# Altium integrated library TI Interface Display.IntLib: 133 symbols (part 11 of 16)
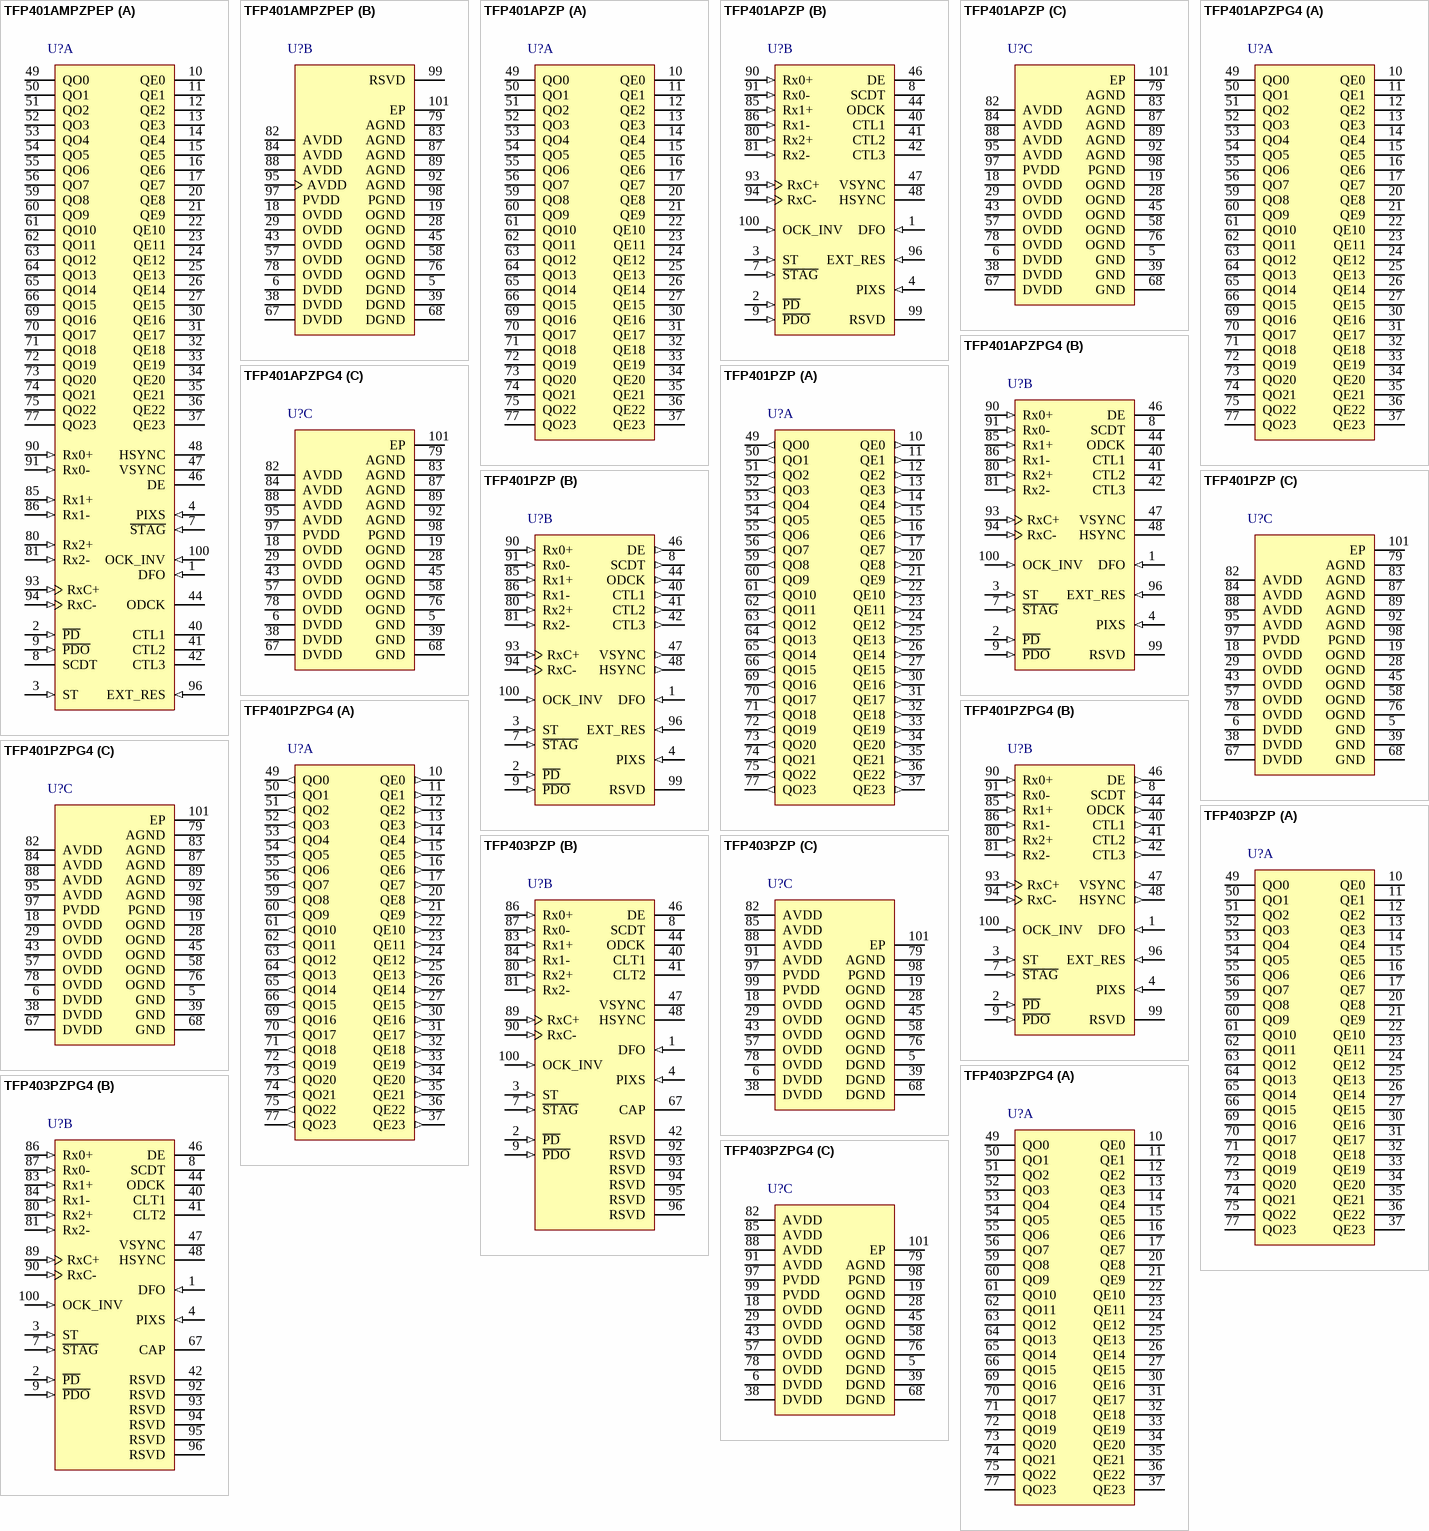
[diagram p24: symbols TFP401AMPZPEP to TFP403PZPG4]

## TFP403PZPG4
designator U?
PanelBus DVI Receiver with 3 Data Channels, 3.3 V, 0 to +70 degC, 100-pin HTQFP (PZP), Green (RoHS & no Sb/Br); Manufacturer: Texas Instruments; PartNumber: TFP403PZPG4; Number of Parallel Outputs: 48; PLL Frequency(MHz): 25 to 165; Rating: Catalog; Receiver: TRUE; Serial Data Receiver Channels: 3; SubFamily: PanelBus (DVI); Supply Voltage(s)(V): 3.3; DatasheetVersion: SLDS125B; PackageVersion: revC, Sep-2011; PackageReference: PZP100-4700X4700TP; PackageDescription: 100-Pin Plastic Quad Flat Pack PowerPAD; Eco-Plan: Green (RoHS & no Sb/Br); Mounting Technology: Surface Mount; Code_JEDEC: MS-026; ComponentLink1Description: Datasheet; ComponentLink1URL: http://www.ti.com/general/docs/lit/getliterature.tsp?genericPartNumber=TFP403&fileType=pdf; ComponentLink2Description: URL Link1; ComponentLink2URL: SamplesURL:http://www.ti.com/product/tfp403#samples
footprint PZP100-4700X4700TP_N (Thin QFP, 100-Leads, Body 14x14mm, Pitch 0.5mm, Thermal Pad 5.2x5.2mm, IPC Medium Density)
footprint PZP100-4700X4700TP_L (Thin QFP, 100-Leads, Body 14x14mm, Pitch 0.5mm, Thermal Pad 5.2x5.2mm, IPC High Density)
footprint PZP100-4700X4700TP_M (Thin QFP, 100-Leads, Body 14x14mm, Pitch 0.5mm, Thermal Pad 5.2x5.2mm, IPC Low Density)
part A pins: 10 QE0 (hiz) "Even blue pixel output--Output for even and odd blue pixels when in 1-pixel/clock mode. Output for even only blue pixel when in 2-pixel per clock mode. Output data is synchronized to the output data clock, ODCK.[see (See Datasheet)", 11 QE1 (hiz) "Even blue pixel output--Output for even and odd blue pixels when in 1-pixel/clock mode. Output for even only blue pixel when in 2-pixel per clock mode. Output data is synchronized to the output data clock, ODCK.[see (See Datasheet)", 12 QE2 (hiz) "Even blue pixel output--Output for even and odd blue pixels when in 1-pixel/clock mode. Output for even only blue pixel when in 2-pixel per clock mode. Output data is synchronized to the output data clock, ODCK.[see (See Datasheet)", 13 QE3 (hiz) "Even blue pixel output--Output for even and odd blue pixels when in 1-pixel/clock mode. Output for even only blue pixel when in 2-pixel per clock mode. Output data is synchronized to the output data clock, ODCK.[see (See Datasheet)", 14 QE4 (hiz) "Even blue pixel output--Output for even and odd blue pixels when in 1-pixel/clock mode. Output for even only blue pixel when in 2-pixel per clock mode. Output data is synchronized to the output data clock, ODCK.[see (See Datasheet)", 15 QE5 (hiz) "Even blue pixel output--Output for even and odd blue pixels when in 1-pixel/clock mode. Output for even only blue pixel when in 2-pixel per clock mode. Output data is synchronized to the output data clock, ODCK.[see (See Datasheet)", 16 QE6 (hiz) "Even blue pixel output--Output for even and odd blue pixels when in 1-pixel/clock mode. Output for even only blue pixel when in 2-pixel per clock mode. Output data is synchronized to the output data clock, ODCK.[see (See Datasheet)", 17 QE7 (hiz) "Even blue pixel output--Output for even and odd blue pixels when in 1-pixel/clock mode. Output for even only blue pixel when in 2-pixel per clock mode. Output data is synchronized to the output data clock, ODCK.[see (See Datasheet)", 20 QE8 (hiz) "Even green pixel output--Output for even and odd green pixels when in 1-pixel/clock mode. Output for even only green pixel when in 2-pixel/clock mode. Output data is synchronized to the output data clock, ODCK.[see datasheet]", 21 QE9 (hiz) "Even green pixel output--Output for even and odd green pixels when in 1-pixel/clock mode. Output for even only green pixel when in 2-pixel/clock mode. Output data is synchronized to the output data clock, ODCK.[see datasheet]", 22 QE10 (hiz) "Even green pixel output--Output for even and odd green pixels when in 1-pixel/clock mode. Output for even only green pixel when in 2-pixel/clock mode. Output data is synchronized to the output data clock, ODCK.[see datasheet]", 23 QE11 (hiz) "Even green pixel output--Output for even and odd green pixels when in 1-pixel/clock mode. Output for even only green pixel when in 2-pixel/clock mode. Output data is synchronized to the output data clock, ODCK.[see datasheet]", 24 QE12 (hiz) "Even green pixel output--Output for even and odd green pixels when in 1-pixel/clock mode. Output for even only green pixel when in 2-pixel/clock mode. Output data is synchronized to the output data clock, ODCK.[see datasheet]", 25 QE13 (hiz) "Even green pixel output--Output for even and odd green pixels when in 1-pixel/clock mode. Output for even only green pixel when in 2-pixel/clock mode. Output data is synchronized to the output data clock, ODCK.[see datasheet]", 26 QE14 (hiz) "Even green pixel output--Output for even and odd green pixels when in 1-pixel/clock mode. Output for even only green pixel when in 2-pixel/clock mode. Output data is synchronized to the output data clock, ODCK.[see datasheet]", 27 QE15 (hiz) "Even green pixel output--Output for even and odd green pixels when in 1-pixel/clock mode. Output for even only green pixel when in 2-pixel/clock mode. Output data is synchronized to the output data clock, ODCK.[see datasheet]", 30 QE16 (hiz) "Even red pixel output--Output for even and odd red pixels when in 1-pixel/clock mode. Output for even only red pixel when in 2-pixel/clock mode. Output data is synchronized to the output data clock, ODCK.[see datasheet]", 31 QE17 (hiz) "Even red pixel output--Output for even and odd red pixels when in 1-pixel/clock mode. Output for even only red pixel when in 2-pixel/clock mode. Output data is synchronized to the output data clock, ODCK.[see datasheet]", 32 QE18 (hiz) "Even red pixel output--Output for even and odd red pixels when in 1-pixel/clock mode. Output for even only red pixel when in 2-pixel/clock mode. Output data is synchronized to the output data clock, ODCK.[see datasheet]", 33 QE19 (hiz) "Even red pixel output--Output for even and odd red pixels when in 1-pixel/clock mode. Output for even only red pixel when in 2-pixel/clock mode. Output data is synchronized to the output data clock, ODCK.[see datasheet]", 34 QE20 (hiz) "Even red pixel output--Output for even and odd red pixels when in 1-pixel/clock mode. Output for even only red pixel when in 2-pixel/clock mode. Output data is synchronized to the output data clock, ODCK.[see datasheet]", 35 QE21 (hiz) "Even red pixel output--Output for even and odd red pixels when in 1-pixel/clock mode. Output for even only red pixel when in 2-pixel/clock mode. Output data is synchronized to the output data clock, ODCK.[see datasheet]", 36 QE22 (hiz) "Even red pixel output--Output for even and odd red pixels when in 1-pixel/clock mode. Output for even only red pixel when in 2-pixel/clock mode. Output data is synchronized to the output data clock, ODCK.[see datasheet]", 37 QE23 (hiz) "Even red pixel output--Output for even and odd red pixels when in 1-pixel/clock mode. Output for even only red pixel when in 2-pixel/clock mode. Output data is synchronized to the output data clock, ODCK.[see datasheet]", 49 QO0 (hiz) "Odd blue pixel output--Output for odd only blue pixel when in 2-pixel/clock mode. Not used, and held low, when in 1-pixel/clock mode. Output data is synchronized to the output data clock, ODCK.[see datasheet]", 50 QO1 (hiz) "Odd blue pixel output--Output for odd only blue pixel when in 2-pixel/clock mode. Not used, and held low, when in 1-pixel/clock mode. Output data is synchronized to the output data clock, ODCK.[see datasheet]", 51 QO2 (hiz) "Odd blue pixel output--Output for odd only blue pixel when in 2-pixel/clock mode. Not used, and held low, when in 1-pixel/clock mode. Output data is synchronized to the output data clock, ODCK.[see datasheet]", 52 QO3 (hiz) "Odd blue pixel output--Output for odd only blue pixel when in 2-pixel/clock mode. Not used, and held low, when in 1-pixel/clock mode. Output data is synchronized to the output data clock, ODCK.[see datasheet]", 53 QO4 (hiz) "Odd blue pixel output--Output for odd only blue pixel when in 2-pixel/clock mode. Not used, and held low, when in 1-pixel/clock mode. Output data is synchronized to the output data clock, ODCK.[see datasheet]", 54 QO5 (hiz) "Odd blue pixel output--Output for odd only blue pixel when in 2-pixel/clock mode. Not used, and held low, when in 1-pixel/clock mode. Output data is synchronized to the output data clock, ODCK.[see datasheet]", 55 QO6 (hiz) "Odd blue pixel output--Output for odd only blue pixel when in 2-pixel/clock mode. Not used, and held low, when in 1-pixel/clock mode. Output data is synchronized to the output data clock, ODCK.[see datasheet]", 56 QO7 (hiz) "Odd blue pixel output--Output for odd only blue pixel when in 2-pixel/clock mode. Not used, and held low, when in 1-pixel/clock mode. Output data is synchronized to the output data clock, ODCK.[see datasheet]", 59 QO8 (hiz) "Odd green pixel output--Output for odd only green pixel when in 2-pixel/clock mode. Not used, and held low,when in 1-pixel/clock mode. Output data is synchronized to the output data clock, ODCK.[see datasheet]", 60 QO9 (hiz) "Odd green pixel output--Output for odd only green pixel when in 2-pixel/clock mode. Not used, and held low,when in 1-pixel/clock mode. Output data is synchronized to the output data clock, ODCK.[see datasheet]", 61 QO10 (hiz) "Odd green pixel output--Output for odd only green pixel when in 2-pixel/clock mode. Not used, and held low,when in 1-pixel/clock mode. Output data is synchronized to the output data clock, ODCK.[see datasheet]", 62 QO11 (hiz) "Odd green pixel output--Output for odd only green pixel when in 2-pixel/clock mode. Not used, and held low,when in 1-pixel/clock mode. Output data is synchronized to the output data clock, ODCK.[see datasheet]", 63 QO12 (hiz) "Odd green pixel output--Output for odd only green pixel when in 2-pixel/clock mode. Not used, and held low,when in 1-pixel/clock mode. Output data is synchronized to the output data clock, ODCK.[see datasheet]", 64 QO13 (hiz) "Odd green pixel output--Output for odd only green pixel when in 2-pixel/clock mode. Not used, and held low,when in 1-pixel/clock mode. Output data is synchronized to the output data clock, ODCK.[see datasheet]", 65 QO14 (hiz) "Odd green pixel output--Output for odd only green pixel when in 2-pixel/clock mode. Not used, and held low,when in 1-pixel/clock mode. Output data is synchronized to the output data clock, ODCK.[see datasheet]", 66 QO15 (hiz) "Odd green pixel output--Output for odd only green pixel when in 2-pixel/clock mode. Not used, and held low,when in 1-pixel/clock mode. Output data is synchronized to the output data clock, ODCK.[see datasheet]", 69 QO16 (hiz) "Odd red pixel output--Output for odd only red pixel when in 2-pixel/clock mode. Not used, and held low, when in 1-pixel/clock mode. Output data is synchronized to the output data clock, ODCK.[see datasheet]", 70 QO17 (hiz) "Odd red pixel output--Output for odd only red pixel when in 2-pixel/clock mode. Not used, and held low, when in 1-pixel/clock mode. Output data is synchronized to the output data clock, ODCK.[see datasheet]", 71 QO18 (hiz) "Odd red pixel output--Output for odd only red pixel when in 2-pixel/clock mode. Not used, and held low, when in 1-pixel/clock mode. Output data is synchronized to the output data clock, ODCK.[see datasheet]", 72 QO19 (hiz) "Odd red pixel output--Output for odd only red pixel when in 2-pixel/clock mode. Not used, and held low, when in 1-pixel/clock mode. Output data is synchronized to the output data clock, ODCK.[see datasheet]", 73 QO20 (hiz) "Odd red pixel output--Output for odd only red pixel when in 2-pixel/clock mode. Not used, and held low, when in 1-pixel/clock mode. Output data is synchronized to the output data clock, ODCK.[see datasheet]", 74 QO21 (hiz) "Odd red pixel output--Output for odd only red pixel when in 2-pixel/clock mode. Not used, and held low, when in 1-pixel/clock mode. Output data is synchronized to the output data clock, ODCK.[see datasheet]", 75 QO22 (hiz) "Odd red pixel output--Output for odd only red pixel when in 2-pixel/clock mode. Not used, and held low, when in 1-pixel/clock mode. Output data is synchronized to the output data clock, ODCK.[see datasheet]", 77 QO23 (hiz) "Odd red pixel output--Output for odd only red pixel when in 2-pixel/clock mode. Not used, and held low, when in 1-pixel/clock mode. Output data is synchronized to the output data clock, ODCK.[see datasheet]"
part B pins: 1 DFO (in) "Output clock data format--Controls the output clock (ODCK) format for either TFT or DSTN panel support.", 2 ~{PD} (in) "Power down--An active low signal that controls the TFP403 power-down state.[see datasheet]", 3 ST (in) "Output drive strength select--Selects output drive strength for high or low current drive. (See dc specifications for IOH and IOL vs ST state.)[see datasheet]", 4 PIXS (in) "Pixel select--Selects between one or two pixels per clock output modes.[see datasheet]", 7 ~{STAG} (in) "Staggered pixel select--An active low signal used in the 2-pixel/clock pixel mode (PIXS = high). Time staggers the even and odd pixel outputs to reduce ground bounce.[see datasheet]", 8 SCDT (hiz) "Sync detect--Output to signal when the link is active or inactive. The link is considered to be active when DE is actively switching.[see datasheet]", 9 ~{PDO} (in) "Output drive power down--An active low signal that controls the power-down state of the output drivers.[see datasheet]", 40 CLT1 (hiz) "General-purpose control signals--Used for user defined control. In normal mode CTL1 is not powered down via P\D\O\.", 41 CLT2 (hiz) "General-purpose control signals--Used for user defined control. In normal mode CTL1 is not powered down via P\D\O\.", 42 RSVD "Reserved. Must be tied high for normal operation", 44 ODCK (hiz) "Output data clock--Pixel clock. All pixel outputs QE[23:0] and QO[23:0] (if in 2-pixel/clock mode) along with DE, HSYNC, VSYNC, and CTL[2:1] are synchronized to this clock.", 46 DE (hiz) "Output data enable--Used to indicate time of active video display versus nonactive display or blank time.[see datasheet]", 47 VSYNC (hiz) "Vertical sync output", 48 HSYNC (hiz) "Horizontal sync output", 67 CAP "Bypass capacitor--4.7 uF tantalum and 0.01 uF ceramic connected to ground. This capacitor is optional for the TFP403, but is required for the TFP501.", 80 Rx2+ (in) "Channel-2 positive receiver input--Positive side of channel-2 TMDS low voltage signal differential input pair.Channel-2 receives red pixel data in active display and CTL2 control signals in blank.", 81 Rx2- (in) "Channel-2 negative receiver input", 83 Rx1+ (in) "Channel-1 positive receiver input--Positive side of channel-1 TMDS low voltage signal differential input pair.Channel-1 receives green pixel data in active display and CTL1 control signals in blank.", 84 Rx1- (in) "Channel-1 negative receiver input--Negative side of channel-1 TMDS low voltage signal differential input pair", 86 Rx0+ (in) "Channel-0 positive receiver input--Positive side of channel-0. TMDS low voltage signal differential input pair.Channel-0 receives blue pixel data in active display and HSYNC, VSYNC control signals in blank.", 87 Rx0- (in) "Channel-0 negative receiver input--Negative side of channel-0. TMDS low voltage signal differential input pair.", 89 RxC+ (in) "Clock positive receiver input--Positive side of reference clock. TMDS low voltage signal differential input pair", 90 RxC- (in) "Clock negative receiver input--Negative side of reference clock. TMDS low voltage signal differential input pair", 92 RSVD "Reserved. See TFP501 data sheet for intended future use.", 93 RSVD "Reserved. See TFP501 data sheet for intended future use.", 94 RSVD "Reserved. See TFP501 data sheet for intended future use.", 95 RSVD "Reserved. See TFP501 data sheet for intended future use.", 96 RSVD "Reserved. See TFP501 data sheet for intended future use.", 100 OCK_INV (in) "ODCK polarity"
part C pins: 5 DGND (power) "Digital ground--Ground reference and current return for digital core", 6 DVDD (power) "Digital VDD--Power supply for digital core. Nominally 3.3 V", 18 OVDD (power) "Output driver VDD--Power supply for output drivers. Nominally 3.3 V", 19 OGND (power) "Output driver ground--Ground reference and current return for digital output drivers", 28 OGND (power) "Output driver ground--Ground reference and current return for digital output drivers", 29 OVDD (power) "Output driver VDD--Power supply for output drivers. Nominally 3.3 V", 38 DVDD (power) "Digital VDD--Power supply for digital core. Nominally 3.3 V", 39 DGND (power) "Digital ground--Ground reference and current return for digital core", 43 OVDD (power) "Output driver VDD--Power supply for output drivers. Nominally 3.3 V", 45 OGND (power) "Output driver ground--Ground reference and current return for digital output drivers", 57 OVDD (power) "Output driver VDD--Power supply for output drivers. Nominally 3.3 V", 58 OGND (power) "Output driver ground--Ground reference and current return for digital output drivers", 68 DGND (power) "Digital ground--Ground reference and current return for digital core", 76 OGND (power) "Output driver ground--Ground reference and current return for digital output drivers", 78 OVDD (power) "Output driver VDD--Power supply for output drivers. Nominally 3.3 V", 79 AGND (power) "Analog ground--Ground reference and current return for analog circuitry", 82 AVDD (power) "Analog VDD--Power supply for analog circuitry. Nominally 3.3 V", 85 AVDD (power) "Analog VDD--Power supply for analog circuitry. Nominally 3.3 V", 88 AVDD (power) "Analog VDD--Power supply for analog circuitry. Nominally 3.3 V", 91 AVDD (power) "Analog VDD--Power supply for analog circuitry. Nominally 3.3 V", 97 PVDD (power) "PLL VDD--Power supply for internal PLL. Nominally 3.3 V", 98 PGND (power) "PLL GND--Ground reference and current return for internal PLL", 99 PVDD (power) "PLL VDD--Power supply for internal PLL. Nominally 3.3 V", 101 EP "(HSYNC, VSYNC, DE, CTL1-2 ) are latched"

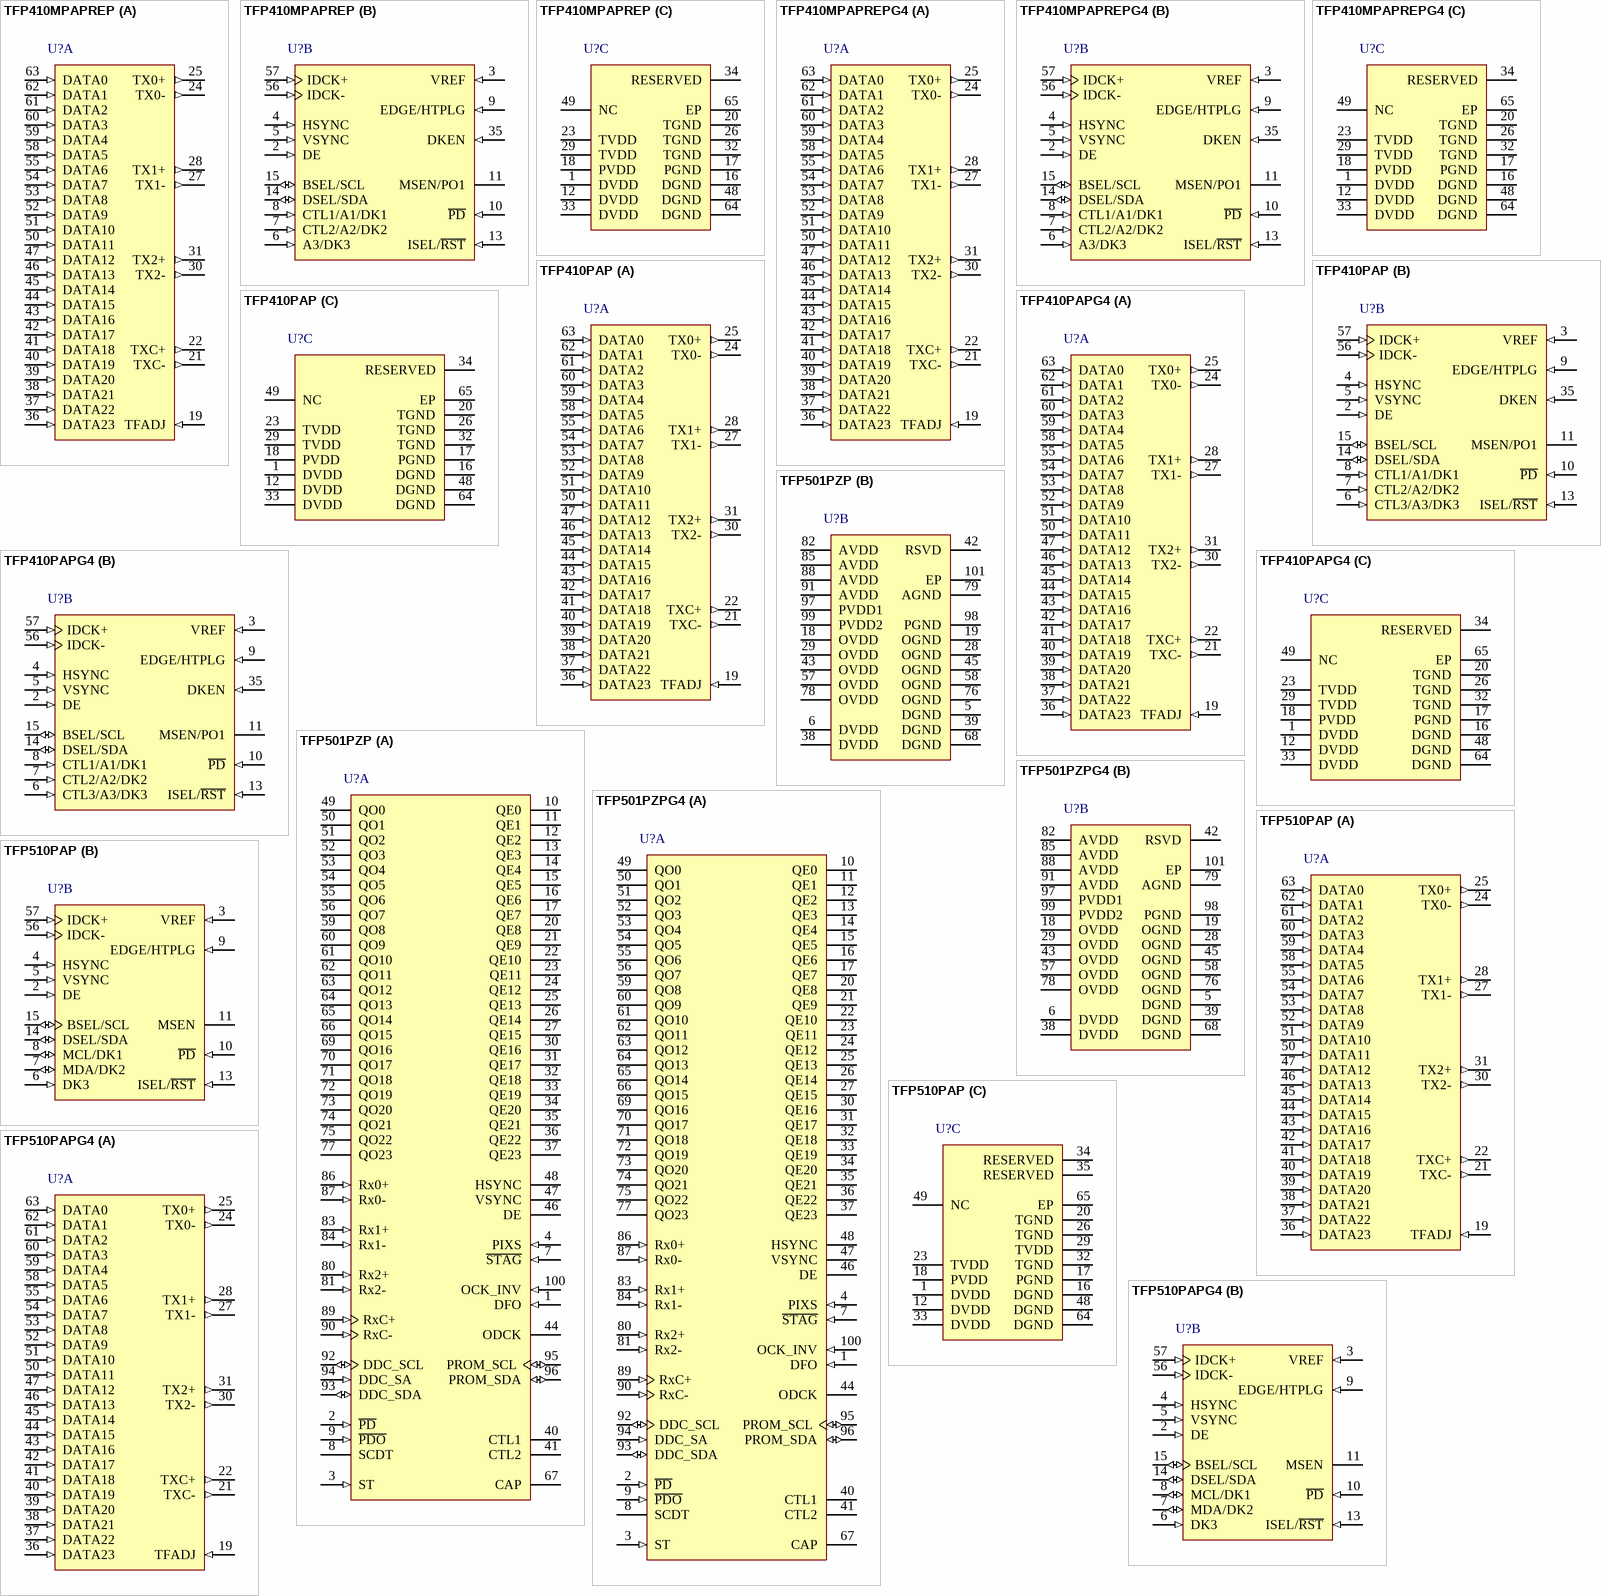
[diagram p10: symbols TFP410MPAPREP to TFP510PAPG4]

## TFP410MPAPREP
designator U?
Enhanced Product Panelbus™ Digital Transmitter with 3 Data Channels, 3.3 V, -55 to +125 degC, 64-pin HTQFP (PAP), Green (RoHS & no Sb/Br); Manufacturer: Texas Instruments; PartNumber: TFP410MPAPREP; Number of Parallel Inputs: 24; PLL Frequency(MHz): 25 to 165; Rating: HiRel Enhanced Product; Serial Data Transmitter Channels: 3; SubFamily: PanelBus (DVI); Supply Voltage(s)(V): 3.3; Transmitter: TRUE; DatasheetVersion: SGLS344A; PackageVersion: revC, Aug-2003; PackageReference: PAP64-4650X4650TP; PackageDescription: 64-Pin Plastic Quad Flat Pack, 10 x 10 mm Body, 0.5 mm Pitch, Exposed Pad; Supplier 1: Newark; Supplier Part Number 1: 46M0918; Supplier 2: Mouser; Supplier Part Number 2: 595-TFP410MPAPREP; Eco-Plan: Green (RoHS & no Sb/Br); Mounting Technology: Surface Mount; Code_JEDEC: MS-026; ComponentLink1Description: Datasheet; ComponentLink1URL: http://www.ti.com/general/docs/lit/getliterature.tsp?genericPartNumber=TFP410-EP&fileType=pdf; ComponentLink2Description: URL Link1; ComponentLink2URL: SamplesURL:http://www.ti.com/product/tfp410-ep#samples
footprint PAP64-4650X4650TP_N (Thin QFP, 64-Leads, Body 10x10mm, Pitch 0.5mm, Thermal Pad 5x5mm, IPC Medium Density)
footprint PAP64-4650X4650TP_L (Thin QFP, 64-Leads, Body 10x10mm, Pitch 0.5mm, Thermal Pad 5x5mm, IPC High Density)
footprint PAP64-4650X4650TP_M (Thin QFP, 64-Leads, Body 10x10mm, Pitch 0.5mm, Thermal Pad 5x5mm, IPC Low Density)
part A pins: 19 TFADJ (in) "Full-scale adjust. This pin controls the amplitude of the DVI output voltage swing, determined by the value of the pullup resistor RTFADJ connected to TVDD.", 21 TXC- (out) "DVI differential output clock", 22 TXC+ (out) "DVI differential output clock", 24 TX0- (out) "Channel 0 DVI differential output pair. TX0+/- transmits the 8-bit blue pixel data during active video and HSYNC and VSYNC during the blanking interval.", 25 TX0+ (out) "Channel 0 DVI differential output pair. TX0+/- transmits the 8-bit blue pixel data during active video and HSYNC and VSYNC during the blanking interval.", 27 TX1- (out) "Channel 1 DVI differential output pair. TX1+/- transmits the 8-bit green pixel data during active video and CTL[1] during the blanking interval.", 28 TX1+ (out) "Channel 1 DVI differential output pair. TX1+/- transmits the 8-bit green pixel data during active video and CTL[1] during the blanking interval.", 30 TX2- (out) "Channel 2 DVI differential output pair. TX2+/- transmits the 8-bit red pixel data during active video and CTL[3:2] during the blanking interval.", 31 TX2+ (out) "Channel 2 DVI differential output pair. TX2+/- transmits the 8-bit red pixel data during active video and CTL[3:2] during the blanking interval.", 36 DATA23 (in) "Upper 12 bits of the 24-bit pixel bus In 24-bit, single-edge input mode (BSEL = high), this bus inputs the top half of the 24-bit pixel bus.[see datasheet]", 37 DATA22 (in) "Upper 12 bits of the 24-bit pixel bus In 24-bit, single-edge input mode (BSEL = high), this bus inputs the top half of the 24-bit pixel bus.[see datasheet]", 38 DATA21 (in) "Upper 12 bits of the 24-bit pixel bus In 24-bit, single-edge input mode (BSEL = high), this bus inputs the top half of the 24-bit pixel bus.[see datasheet]", 39 DATA20 (in) "Upper 12 bits of the 24-bit pixel bus In 24-bit, single-edge input mode (BSEL = high), this bus inputs the top half of the 24-bit pixel bus.[see datasheet]", 40 DATA19 (in) "Upper 12 bits of the 24-bit pixel bus In 24-bit, single-edge input mode (BSEL = high), this bus inputs the top half of the 24-bit pixel bus.[see datasheet]", 41 DATA18 (in) "Upper 12 bits of the 24-bit pixel bus In 24-bit, single-edge input mode (BSEL = high), this bus inputs the top half of the 24-bit pixel bus.[see datasheet]", 42 DATA17 (in) "Upper 12 bits of the 24-bit pixel bus In 24-bit, single-edge input mode (BSEL = high), this bus inputs the top half of the 24-bit pixel bus.[see datasheet]", 43 DATA16 (in) "Upper 12 bits of the 24-bit pixel bus In 24-bit, single-edge input mode (BSEL = high), this bus inputs the top half of the 24-bit pixel bus.[see datasheet]", 44 DATA15 (in) "Upper 12 bits of the 24-bit pixel bus In 24-bit, single-edge input mode (BSEL = high), this bus inputs the top half of the 24-bit pixel bus.[see datasheet]", 45 DATA14 (in) "Upper 12 bits of the 24-bit pixel bus In 24-bit, single-edge input mode (BSEL = high), this bus inputs the top half of the 24-bit pixel bus.[see datasheet]", 46 DATA13 (in) "Upper 12 bits of the 24-bit pixel bus In 24-bit, single-edge input mode (BSEL = high), this bus inputs the top half of the 24-bit pixel bus.[see datasheet]", 47 DATA12 (in) "Upper 12 bits of the 24-bit pixel bus In 24-bit, single-edge input mode (BSEL = high), this bus inputs the top half of the 24-bit pixel bus.[see datasheet]", 50 DATA11 (in) "Lower 12 bits of the 24-bit pixel bus/12-bit pixel bus input In 24-bit, single-edge input mode (BSEL = high), this bus inputs the bottom half of the 24-bit pixel bus.[see datasheet]", 51 DATA10 (in) "Lower 12 bits of the 24-bit pixel bus/12-bit pixel bus input In 24-bit, single-edge input mode (BSEL = high), this bus inputs the bottom half of the 24-bit pixel bus.[see datasheet]", 52 DATA9 (in) "Lower 12 bits of the 24-bit pixel bus/12-bit pixel bus input In 24-bit, single-edge input mode (BSEL = high), this bus inputs the bottom half of the 24-bit pixel bus.[see datasheet]", 53 DATA8 (in) "Lower 12 bits of the 24-bit pixel bus/12-bit pixel bus input In 24-bit, single-edge input mode (BSEL = high), this bus inputs the bottom half of the 24-bit pixel bus.[see datasheet]", 54 DATA7 (in) "Lower 12 bits of the 24-bit pixel bus/12-bit pixel bus input In 24-bit, single-edge input mode (BSEL = high), this bus inputs the bottom half of the 24-bit pixel bus.[see datasheet]", 55 DATA6 (in) "Lower 12 bits of the 24-bit pixel bus/12-bit pixel bus input In 24-bit, single-edge input mode (BSEL = high), this bus inputs the bottom half of the 24-bit pixel bus.[see datasheet]", 58 DATA5 (in) "Lower 12 bits of the 24-bit pixel bus/12-bit pixel bus input In 24-bit, single-edge input mode (BSEL = high), this bus inputs the bottom half of the 24-bit pixel bus.[see datasheet]", 59 DATA4 (in) "Lower 12 bits of the 24-bit pixel bus/12-bit pixel bus input In 24-bit, single-edge input mode (BSEL = high), this bus inputs the bottom half of the 24-bit pixel bus.[see datasheet]", 60 DATA3 (in) "Lower 12 bits of the 24-bit pixel bus/12-bit pixel bus input In 24-bit, single-edge input mode (BSEL = high), this bus inputs the bottom half of the 24-bit pixel bus.[see datasheet]", 61 DATA2 (in) "Lower 12 bits of the 24-bit pixel bus/12-bit pixel bus input In 24-bit, single-edge input mode (BSEL = high), this bus inputs the bottom half of the 24-bit pixel bus.[see datasheet]", 62 DATA1 (in) "Lower 12 bits of the 24-bit pixel bus/12-bit pixel bus input In 24-bit, single-edge input mode (BSEL = high), this bus inputs the bottom half of the 24-bit pixel bus.[see datasheet]", 63 DATA0 (in) "Lower 12 bits of the 24-bit pixel bus/12-bit pixel bus input In 24-bit, single-edge input mode (BSEL = high), this bus inputs the bottom half of the 24-bit pixel bus.[see datasheet]"
part B pins: 2 DE (in) "Data enable. As defined in DVI 1.0 specification, the DE signal allows the transmitter to encode pixel data or control data on any given input clock cycle.[see datasheet]", 3 VREF (in) "Input reference voltage. Selects the swing range of the digital data inputs (DATA[23:0], DE, HSYNC,VSYNC, and IDCK+/-).[see datasheet]", 4 HSYNC (in) "Horizontal sync input", 5 VSYNC (in) "Vertical sync input", 6 A3/DK3 (in) "The operation of these three multifunction inputs depends on the settings of the ISEL (pin 13) and DKEN (pin 35) inputs. All three inputs support 3.3-V CMOS signal levels and contain weak pulldown resistors so that, if left (See Datasheet)", 7 CTL2/A2/DK2 (in) "The operation of these three multifunction inputs depends on the settings of the ISEL (pin 13) and DKEN (pin 35) inputs. All three inputs support 3.3-V CMOS signal levels and contain weak pulldown resistors so that, if left (See Datasheet)", 8 CTL1/A1/DK1 (in) "The operation of these three multifunction inputs depends on the settings of the ISEL (pin 13) and DKEN (pin 35) inputs. All three inputs support 3.3-V CMOS signal levels and contain weak pulldown resistors so that, if left (See Datasheet)", 9 EDGE/HTPLG (in) "Edge select/hot plug input. The operation of this pin depends on whether the I2C interface is enabled or disabled. This input is 3.3-V tolerant only.[see datasheet]", 10 ~{PD} (in) "Power down (active low). In the power-down state, only the digital I/O buffers and I2C interface remain active.[see datasheet]", 11 MSEN/PO1 (oc) "Monitor sense/programmable output 1. The operation of this pin depends on whether the I2C interface is enabled or disabled.[see datasheet]", 13 ISEL/~{RST} (in) "I2C interface select/I2C reset (active low, asynchronous) If ISEL is high, the I2C interface is active. Default values for the I2C registers can be found in the I2C register descriptions    section[seedatasheet]", 14 DSEL/SDA (io) "DSEL/I2C data. The operation of this pin depends on whether the I2C interface is enabled or disabled. This pin is only 3.3-V tolerant.[see datasheet]", 15 BSEL/SCL (io) "Input bus select/I2C clock input. The operation of this pin depends on whether the I2C interface is enabled or disabled. This pin is only 3.3-V tolerant.[see datasheet]", 35 DKEN (in) "Data deskew enable. The deskew function can be enabled either through I2C or by this pin when I2C is disabled.When deskew is enabled, the input clock to data setup/hold time can be adjusted in discrete trim increments.[see (See Datasheet)", 56 IDCK- (in) "Differential clock input. The TFP410 supports both single-ended and fully differential clock input modes.[see datasheet]", 57 IDCK+ (in) "Differential clock input. The TFP410 supports both single-ended and fully differential clock input modes.[see datasheet]"
part C pins: 1 DVDD (power) "Digital power supply. Must be set to 3.3-V nominal.", 12 DVDD (power) "Digital power supply. Must be set to 3.3-V nominal.", 16 DGND (power) "Digital ground", 17 PGND (power) "PLL ground", 18 PVDD (power) "PLL power supply. Must be set to 3.3-V nominal.", 20 TGND (power) "Transmitter differential output driver ground", 23 TVDD (power) "Transmitter differential output driver power supply. Must be set to 3.3-V nominal.", 26 TGND (power) "Transmitter differential output driver ground", 29 TVDD (power) "Transmitter differential output driver power supply. Must be set to 3.3-V nominal.", 32 TGND (power) "Transmitter differential output driver ground", 33 DVDD (power) "Digital power supply. Must be set to 3.3-V nominal.", 34 RESERVED "This pin is reserved and must be tied to GND for normal operation.", 48 DGND (power) "Digital ground", 49 NC "No connection required. If connected, tie high.", 64 DGND (power) "Digital ground", 65 EP "Exposed Pad"

## TFP410MPAPREPG4
designator U?
Enhanced Product Panelbus™ Digital Transmitter with 3 Data Channels, 3.3 V, -55 to +125 degC, 64-pin HTQFP (PAP), Green (RoHS & no Sb/Br); Manufacturer: Texas Instruments; PartNumber: TFP410MPAPREPG4; Number of Parallel Inputs: 24; PLL Frequency(MHz): 25 to 165; Rating: HiRel Enhanced Product; Serial Data Transmitter Channels: 3; SubFamily: PanelBus (DVI); Supply Voltage(s)(V): 3.3; Transmitter: TRUE; DatasheetVersion: SGLS344A; PackageVersion: revC, Aug-2003; PackageReference: PAP64-4650X4650TP; PackageDescription: 64-Pin Plastic Quad Flat Pack, 10 x 10 mm Body, 0.5 mm Pitch, Exposed Pad; Supplier 1: Digi-Key; Supplier Part Number 1: TFP410MPAPREPG4-ND; Supplier 2: Newark; Supplier Part Number 2: 79R8502; Supplier 3: Mouser; Supplier Part Number 3: 595-TFP410MPAPREPG4; Eco-Plan: Green (RoHS & no Sb/Br); Mounting Technology: Surface Mount; Code_JEDEC: MS-026; ComponentLink1Description: Datasheet; ComponentLink1URL: http://www.ti.com/general/docs/lit/getliterature.tsp?genericPartNumber=TFP410-EP&fileType=pdf; ComponentLink2Description: URL Link1; ComponentLink2URL: SamplesURL:http://www.ti.com/product/tfp410-ep#samples
footprint PAP64-4650X4650TP_N (Thin QFP, 64-Leads, Body 10x10mm, Pitch 0.5mm, Thermal Pad 5x5mm, IPC Medium Density)
footprint PAP64-4650X4650TP_L (Thin QFP, 64-Leads, Body 10x10mm, Pitch 0.5mm, Thermal Pad 5x5mm, IPC High Density)
footprint PAP64-4650X4650TP_M (Thin QFP, 64-Leads, Body 10x10mm, Pitch 0.5mm, Thermal Pad 5x5mm, IPC Low Density)
part A pins: 19 TFADJ (in) "Full-scale adjust. This pin controls the amplitude of the DVI output voltage swing, determined by the value of the pullup resistor RTFADJ connected to TVDD.", 21 TXC- (out) "DVI differential output clock", 22 TXC+ (out) "DVI differential output clock", 24 TX0- (out) "Channel 0 DVI differential output pair. TX0+/- transmits the 8-bit blue pixel data during active video and HSYNC and VSYNC during the blanking interval.", 25 TX0+ (out) "Channel 0 DVI differential output pair. TX0+/- transmits the 8-bit blue pixel data during active video and HSYNC and VSYNC during the blanking interval.", 27 TX1- (out) "Channel 1 DVI differential output pair. TX1+/- transmits the 8-bit green pixel data during active video and CTL[1] during the blanking interval.", 28 TX1+ (out) "Channel 1 DVI differential output pair. TX1+/- transmits the 8-bit green pixel data during active video and CTL[1] during the blanking interval.", 30 TX2- (out) "Channel 2 DVI differential output pair. TX2+/- transmits the 8-bit red pixel data during active video and CTL[3:2] during the blanking interval.", 31 TX2+ (out) "Channel 2 DVI differential output pair. TX2+/- transmits the 8-bit red pixel data during active video and CTL[3:2] during the blanking interval.", 36 DATA23 (in) "Upper 12 bits of the 24-bit pixel bus In 24-bit, single-edge input mode (BSEL = high), this bus inputs the top half of the 24-bit pixel bus.[see datasheet]", 37 DATA22 (in) "Upper 12 bits of the 24-bit pixel bus In 24-bit, single-edge input mode (BSEL = high), this bus inputs the top half of the 24-bit pixel bus.[see datasheet]", 38 DATA21 (in) "Upper 12 bits of the 24-bit pixel bus In 24-bit, single-edge input mode (BSEL = high), this bus inputs the top half of the 24-bit pixel bus.[see datasheet]", 39 DATA20 (in) "Upper 12 bits of the 24-bit pixel bus In 24-bit, single-edge input mode (BSEL = high), this bus inputs the top half of the 24-bit pixel bus.[see datasheet]", 40 DATA19 (in) "Upper 12 bits of the 24-bit pixel bus In 24-bit, single-edge input mode (BSEL = high), this bus inputs the top half of the 24-bit pixel bus.[see datasheet]", 41 DATA18 (in) "Upper 12 bits of the 24-bit pixel bus In 24-bit, single-edge input mode (BSEL = high), this bus inputs the top half of the 24-bit pixel bus.[see datasheet]", 42 DATA17 (in) "Upper 12 bits of the 24-bit pixel bus In 24-bit, single-edge input mode (BSEL = high), this bus inputs the top half of the 24-bit pixel bus.[see datasheet]", 43 DATA16 (in) "Upper 12 bits of the 24-bit pixel bus In 24-bit, single-edge input mode (BSEL = high), this bus inputs the top half of the 24-bit pixel bus.[see datasheet]", 44 DATA15 (in) "Upper 12 bits of the 24-bit pixel bus In 24-bit, single-edge input mode (BSEL = high), this bus inputs the top half of the 24-bit pixel bus.[see datasheet]", 45 DATA14 (in) "Upper 12 bits of the 24-bit pixel bus In 24-bit, single-edge input mode (BSEL = high), this bus inputs the top half of the 24-bit pixel bus.[see datasheet]", 46 DATA13 (in) "Upper 12 bits of the 24-bit pixel bus In 24-bit, single-edge input mode (BSEL = high), this bus inputs the top half of the 24-bit pixel bus.[see datasheet]", 47 DATA12 (in) "Upper 12 bits of the 24-bit pixel bus In 24-bit, single-edge input mode (BSEL = high), this bus inputs the top half of the 24-bit pixel bus.[see datasheet]", 50 DATA11 (in) "Lower 12 bits of the 24-bit pixel bus/12-bit pixel bus input In 24-bit, single-edge input mode (BSEL = high), this bus inputs the bottom half of the 24-bit pixel bus.[see datasheet]", 51 DATA10 (in) "Lower 12 bits of the 24-bit pixel bus/12-bit pixel bus input In 24-bit, single-edge input mode (BSEL = high), this bus inputs the bottom half of the 24-bit pixel bus.[see datasheet]", 52 DATA9 (in) "Lower 12 bits of the 24-bit pixel bus/12-bit pixel bus input In 24-bit, single-edge input mode (BSEL = high), this bus inputs the bottom half of the 24-bit pixel bus.[see datasheet]", 53 DATA8 (in) "Lower 12 bits of the 24-bit pixel bus/12-bit pixel bus input In 24-bit, single-edge input mode (BSEL = high), this bus inputs the bottom half of the 24-bit pixel bus.[see datasheet]", 54 DATA7 (in) "Lower 12 bits of the 24-bit pixel bus/12-bit pixel bus input In 24-bit, single-edge input mode (BSEL = high), this bus inputs the bottom half of the 24-bit pixel bus.[see datasheet]", 55 DATA6 (in) "Lower 12 bits of the 24-bit pixel bus/12-bit pixel bus input In 24-bit, single-edge input mode (BSEL = high), this bus inputs the bottom half of the 24-bit pixel bus.[see datasheet]", 58 DATA5 (in) "Lower 12 bits of the 24-bit pixel bus/12-bit pixel bus input In 24-bit, single-edge input mode (BSEL = high), this bus inputs the bottom half of the 24-bit pixel bus.[see datasheet]", 59 DATA4 (in) "Lower 12 bits of the 24-bit pixel bus/12-bit pixel bus input In 24-bit, single-edge input mode (BSEL = high), this bus inputs the bottom half of the 24-bit pixel bus.[see datasheet]", 60 DATA3 (in) "Lower 12 bits of the 24-bit pixel bus/12-bit pixel bus input In 24-bit, single-edge input mode (BSEL = high), this bus inputs the bottom half of the 24-bit pixel bus.[see datasheet]", 61 DATA2 (in) "Lower 12 bits of the 24-bit pixel bus/12-bit pixel bus input In 24-bit, single-edge input mode (BSEL = high), this bus inputs the bottom half of the 24-bit pixel bus.[see datasheet]", 62 DATA1 (in) "Lower 12 bits of the 24-bit pixel bus/12-bit pixel bus input In 24-bit, single-edge input mode (BSEL = high), this bus inputs the bottom half of the 24-bit pixel bus.[see datasheet]", 63 DATA0 (in) "Lower 12 bits of the 24-bit pixel bus/12-bit pixel bus input In 24-bit, single-edge input mode (BSEL = high), this bus inputs the bottom half of the 24-bit pixel bus.[see datasheet]"
part B pins: 2 DE (in) "Data enable. As defined in DVI 1.0 specification, the DE signal allows the transmitter to encode pixel data or control data on any given input clock cycle.[see datasheet]", 3 VREF (in) "Input reference voltage. Selects the swing range of the digital data inputs (DATA[23:0], DE, HSYNC,VSYNC, and IDCK+/-).[see datasheet]", 4 HSYNC (in) "Horizontal sync input", 5 VSYNC (in) "Vertical sync input", 6 A3/DK3 (in) "The operation of these three multifunction inputs depends on the settings of the ISEL (pin 13) and DKEN (pin 35) inputs. All three inputs support 3.3-V CMOS signal levels and contain weak pulldown resistors so that, if left (See Datasheet)", 7 CTL2/A2/DK2 (in) "The operation of these three multifunction inputs depends on the settings of the ISEL (pin 13) and DKEN (pin 35) inputs. All three inputs support 3.3-V CMOS signal levels and contain weak pulldown resistors so that, if left (See Datasheet)", 8 CTL1/A1/DK1 (in) "The operation of these three multifunction inputs depends on the settings of the ISEL (pin 13) and DKEN (pin 35) inputs. All three inputs support 3.3-V CMOS signal levels and contain weak pulldown resistors so that, if left (See Datasheet)", 9 EDGE/HTPLG (in) "Edge select/hot plug input. The operation of this pin depends on whether the I2C interface is enabled or disabled. This input is 3.3-V tolerant only.[see datasheet]", 10 ~{PD} (in) "Power down (active low). In the power-down state, only the digital I/O buffers and I2C interface remain active.[see datasheet]", 11 MSEN/PO1 (oc) "Monitor sense/programmable output 1. The operation of this pin depends on whether the I2C interface is enabled or disabled.[see datasheet]", 13 ISEL/~{RST} (in) "I2C interface select/I2C reset (active low, asynchronous) If ISEL is high, the I2C interface is active. Default values for the I2C registers can be found in the I2C register descriptions    section[seedatasheet]", 14 DSEL/SDA (io) "DSEL/I2C data. The operation of this pin depends on whether the I2C interface is enabled or disabled. This pin is only 3.3-V tolerant.[see datasheet]", 15 BSEL/SCL (io) "Input bus select/I2C clock input. The operation of this pin depends on whether the I2C interface is enabled or disabled. This pin is only 3.3-V tolerant.[see datasheet]", 35 DKEN (in) "Data deskew enable. The deskew function can be enabled either through I2C or by this pin when I2C is disabled.When deskew is enabled, the input clock to data setup/hold time can be adjusted in discrete trim increments.[see (See Datasheet)", 56 IDCK- (in) "Differential clock input. The TFP410 supports both single-ended and fully differential clock input modes.[see datasheet]", 57 IDCK+ (in) "Differential clock input. The TFP410 supports both single-ended and fully differential clock input modes.[see datasheet]"
part C pins: 1 DVDD (power) "Digital power supply. Must be set to 3.3-V nominal.", 12 DVDD (power) "Digital power supply. Must be set to 3.3-V nominal.", 16 DGND (power) "Digital ground", 17 PGND (power) "PLL ground", 18 PVDD (power) "PLL power supply. Must be set to 3.3-V nominal.", 20 TGND (power) "Transmitter differential output driver ground", 23 TVDD (power) "Transmitter differential output driver power supply. Must be set to 3.3-V nominal.", 26 TGND (power) "Transmitter differential output driver ground", 29 TVDD (power) "Transmitter differential output driver power supply. Must be set to 3.3-V nominal.", 32 TGND (power) "Transmitter differential output driver ground", 33 DVDD (power) "Digital power supply. Must be set to 3.3-V nominal.", 34 RESERVED "This pin is reserved and must be tied to GND for normal operation.", 48 DGND (power) "Digital ground", 49 NC "No connection required. If connected, tie high.", 64 DGND (power) "Digital ground", 65 EP "Exposed Pad"